# Altium footprint library sc18-25J.PcbLib: 1 footprints
Each footprint in its own frame and in the unit in brackets; x right, y up, seen from the top. Pads: shape width x height; smd on the part's side, far side on the other; paste and mask are expansions set on the pad; w line width, h text height; cw(c..) or ccw(c..) is an arc to the next point about the centre after c.
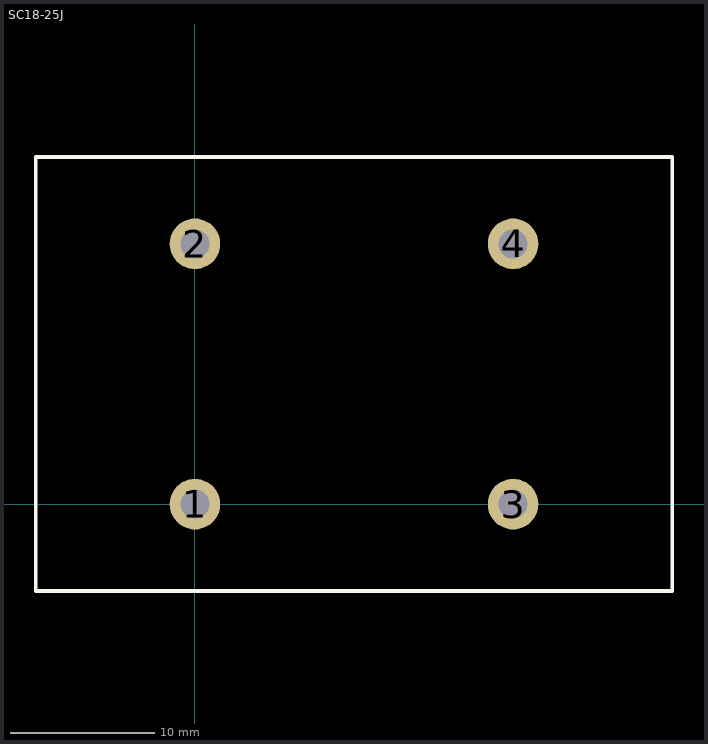
[diagram p0: the footprint, top view; thin cyan lines are the x and y axes]

## SC18-25J [mm]
pads (4):
  round 3.5 hole 2: 1(0,0) 2(0,18) 3(22,0) 4(22,18)
Top Overlay:
  lines w0.254: -11,-6 -11,24 33,24 33,-6 -11,-6
3D body "SC-18-25J.step": height 43.39, standoff -4.6, extent -11,-6 33,24